# Altium footprint library F31L1A7H111040.PcbLib: 1 footprints
Each footprint in its own frame and in the unit in brackets; x right, y up, seen from the top. Pads: shape width x height; smd on the part's side, far side on the other; paste and mask are expansions set on the pad; w line width, h text height; cw(c..) or ccw(c..) is an arc to the next point about the centre after c.
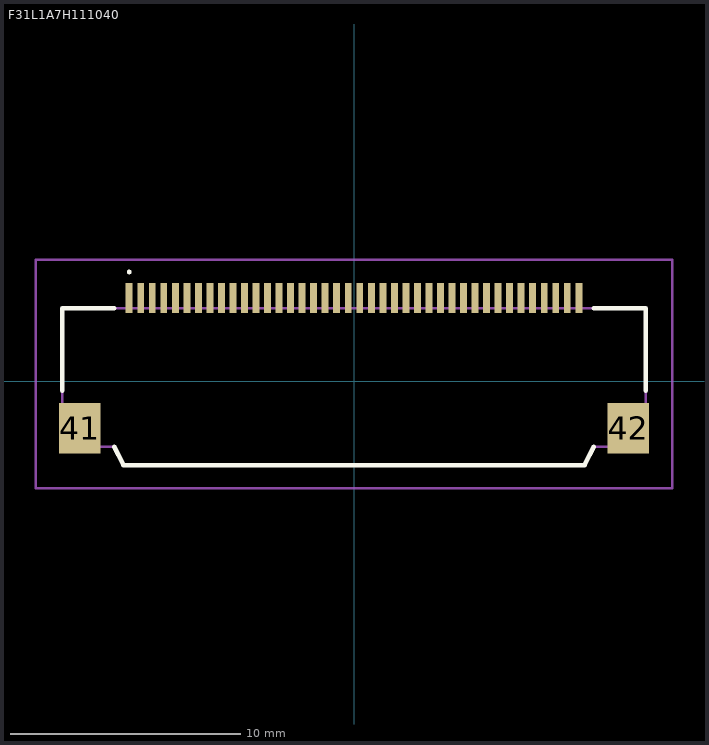
[diagram p0: the footprint, top view; thin cyan lines are the x and y axes]

## F31L1A7H111040 [mm]
pads (42):
  rect 0.3x1.3 smd: 1(-9.75,3.625) 2(-9.25,3.625) 3(-8.75,3.625) 4(-8.25,3.625) 5(-7.75,3.625) 6(-7.25,3.625) 7(-6.75,3.625) 8(-6.25,3.625) 9(-5.75,3.625) 10(-5.25,3.625) 11(-4.75,3.625) 12(-4.25,3.625) 13(-3.75,3.625) 14(-3.25,3.625) 15(-2.75,3.625) 16(-2.25,3.625) 17(-1.75,3.625) 18(-1.25,3.625) 19(-0.75,3.625) 20(-0.25,3.625) 21(0.25,3.625) 22(0.75,3.625) 23(1.25,3.625) 24(1.75,3.625) 25(2.25,3.625) 26(2.75,3.625) 27(3.25,3.625) 28(3.75,3.625) 29(4.25,3.625) 30(4.75,3.625) 31(5.25,3.625) 32(5.75,3.625) 33(6.25,3.625) 34(6.75,3.625) 35(7.25,3.625) 36(7.75,3.625) 37(8.25,3.625) 38(8.75,3.625) 39(9.25,3.625) 40(9.75,3.625)
  rect 1.8x2.2 smd: 41(-11.9,-2.025) 42(11.9,-2.025)
Top Overlay:
  lines w0.1: -9.75,4.7 cw(c-9.75,4.75) -9.75,4.8 ; -9.75,4.7 -9.75,4.7 ; -9.75,4.7 ccw(c-9.75,4.75) -9.75,4.8 ; -9.75,4.8 -9.75,4.8
  lines w0.2: -12.65,-0.4 -12.65,3.175 -10.4,3.175 ; -10.4,-2.825 -10,-3.625 10,-3.625 10.4,-2.825 ; 10.4,3.175 12.65,3.175 12.65,-0.4
Mechanical 15:
  lines w0.1: -12.65,-2.825 -10.4,-2.825 -10,-3.625 0,-3.625 10,-3.625 10.4,-2.825 12.65,-2.825 12.65,3.175 -12.65,3.175 -12.65,-2.825
Mechanical 20:
  lines w0.1: -13.8,-4.625 13.8,-4.625 13.8,5.275 -13.8,5.275 -13.8,-4.625